# Altium footprint library SnapEDApcb.PcbLib: 1 footprints
Each footprint in its own frame and in the unit in brackets; x right, y up, seen from the top. Pads: shape width x height; smd on the part's side, far side on the other; paste and mask are expansions set on the pad; w line width, h text height; cw(c..) or ccw(c..) is an arc to the next point about the centre after c.
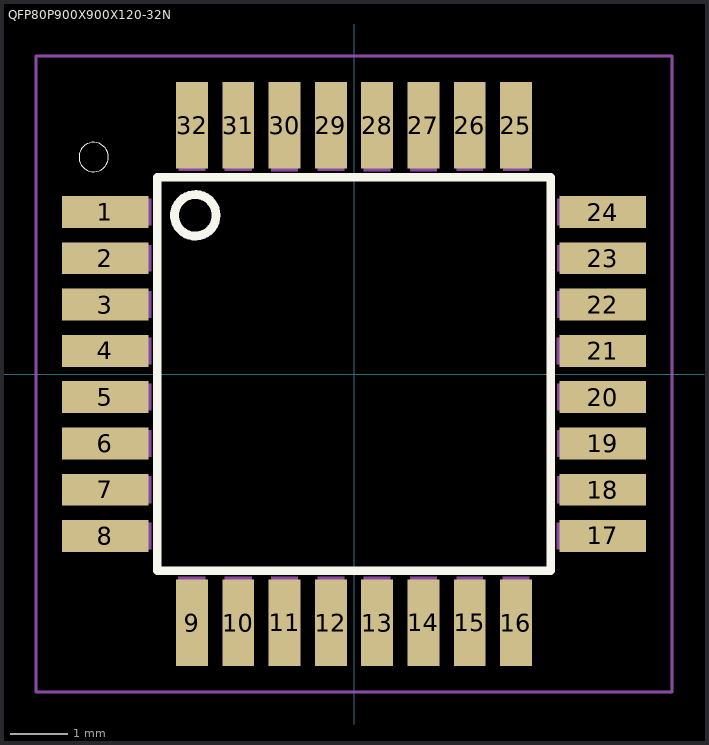
[diagram p0: the footprint, top view; thin cyan lines are the x and y axes]

## QFP80P900X900X120-32N [mm]
pads (32):
  rect 1.5x0.55 smd: 1(-4.3,2.8) 2(-4.3,2) 3(-4.3,1.2) 4(-4.3,0.4) 5(-4.3,-0.4) 6(-4.3,-1.2) 7(-4.3,-2) 8(-4.3,-2.8) 17(4.3,-2.8) 18(4.3,-2) 19(4.3,-1.2) 20(4.3,-0.4) 21(4.3,0.4) 22(4.3,1.2) 23(4.3,2) 24(4.3,2.8)
  rect 0.55x1.5 smd: 9(-2.8,-4.3) 10(-2,-4.3) 11(-1.2,-4.3) 12(-0.4,-4.3) 13(0.4,-4.3) 14(1.2,-4.3) 15(2,-4.3) 16(2.8,-4.3) 25(2.8,4.3) 26(2,4.3) 27(1.2,4.3) 28(0.4,4.3) 29(-0.4,4.3) 30(-1.2,4.3) 31(-2,4.3) 32(-2.8,4.3)
Top Overlay:
  circle w0: c-4.5,3.75 r0.254
  circle w0.152: c-2.743,2.743 r0.359
  lines w0.152: -3.4,-3.4 -3.4,3.4 3.4,3.4 3.4,-3.4 -3.4,-3.4
Mechanical 13:
  region: -2.571,3.509 -3.032,3.509 -3.032,4.497 -2.571,4.497
  region: -1.771,3.512 -2.233,3.512 -2.233,4.497 -1.771,4.497
  region: -0.971,3.508 -1.43,3.508 -1.43,4.497 -0.971,4.497
  region: -0.171,3.513 -0.63,3.513 -0.63,4.497 -0.171,4.497
  region: 0.629,3.506 0.171,3.506 0.171,4.497 0.629,4.497
  region: 1.429,3.509 0.972,3.509 0.972,4.497 1.429,4.497
  region: 2.229,3.511 1.774,3.511 1.774,4.497 2.229,4.497
  region: 3.029,3.513 2.576,3.513 2.576,4.497 3.029,4.497
  region: 4.497,2.575 3.511,2.575 3.511,3.029 4.497,3.029
  region: 4.497,1.774 3.511,1.774 3.511,2.229 4.497,2.229
  region: 4.497,0.973 3.511,0.973 3.511,1.429 4.497,1.429
  region: 4.497,0.172 3.509,0.172 3.509,0.629 4.497,0.629
  region: 4.497,-0.629 3.509,-0.629 3.509,-0.171 4.497,-0.171
  region: 4.497,-1.431 3.511,-1.431 3.511,-0.971 4.497,-0.971
  region: 4.497,-2.233 3.513,-2.233 3.513,-1.771 4.497,-1.771
  region: 4.497,-3.029 3.507,-3.029 3.507,-2.571 4.497,-2.571
  region: 3.029,-4.503 2.575,-4.503 2.575,-3.506 3.029,-3.506
  region: 2.229,-4.504 1.774,-4.504 1.774,-3.506 2.229,-3.506
  region: 1.429,-4.498 0.972,-4.498 0.972,-3.506 1.429,-3.506
  region: 0.629,-4.502 0.172,-4.502 0.172,-3.506 0.629,-3.506
  region: -0.171,-4.498 -0.629,-4.498 -0.629,-3.506 -0.171,-3.506
  region: -0.971,-4.504 -1.431,-4.504 -1.431,-3.506 -0.971,-3.506
  region: -1.771,-4.5 -2.23,-4.5 -2.23,-3.506 -1.771,-3.506
  region: -2.571,-4.505 -3.035,-4.505 -3.035,-3.506 -2.571,-3.506
  region: -3.506,-3.032 -4.501,-3.032 -4.501,-2.571 -3.506,-2.571
  region: -3.506,-2.231 -4.501,-2.231 -4.501,-1.771 -3.506,-1.771
  region: -3.506,-1.43 -4.502,-1.43 -4.502,-0.971 -3.506,-0.971
  region: -3.506,-0.629 -4.503,-0.629 -4.503,-0.171 -3.506,-0.171
  region: -3.506,0.172 -4.5,0.172 -4.5,0.629 -3.506,0.629
  region: -3.506,0.972 -4.5,0.972 -4.5,1.429 -3.506,1.429
  region: -3.506,1.775 -4.505,1.775 -4.505,2.229 -3.506,2.229
  region: -3.506,2.572 -4.497,2.572 -4.497,3.029 -3.506,3.029
Mechanical 15:
  lines w0.05: -5.5,-5.5 -5.5,5.5 5.5,5.5 5.5,-5.5 -5.5,-5.5